# Altium footprint library CASE-D_7343.PcbLib: 1 footprints
Each footprint in its own frame and in the unit in brackets; x right, y up, seen from the top. Pads: shape width x height; smd on the part's side, far side on the other; paste and mask are expansions set on the pad; w line width, h text height; cw(c..) or ccw(c..) is an arc to the next point about the centre after c.
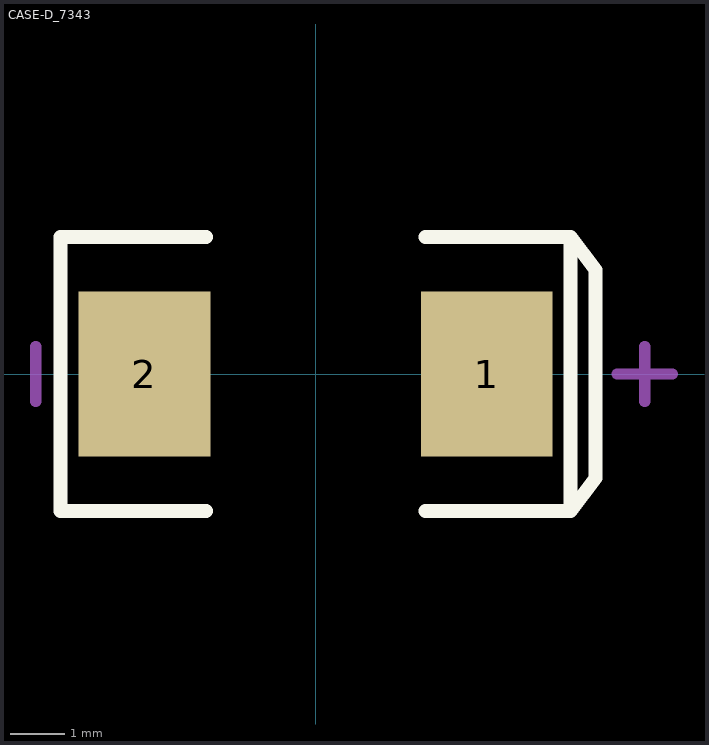
[diagram p0: the footprint, top view; thin cyan lines are the x and y axes]

## CASE-D_7343 [mm]
pads (2):
  rect 2.4x3 smd: 1(3.12,0) 2(-3.12,0)
Top Overlay:
  lines w0.254: -2,-2.5 -4.647,-2.5 -4.647,2.5 -2,2.5 ; 2,-2.5 4.647,-2.5 ; 2,2.5 4.647,2.5 ; 4.647,-2.5 5.1,-1.9 5.1,1.9 4.647,2.5 ; 4.647,-2.5 4.647,2.5
Mechanical 15:
  lines w0.203: -5.1,-0.5 -5.1,0.5 ; 5.5,0 6.5,0 ; 6,-0.5 6,0.5
3D body: height 3.01, standoff 0, extent -3.701,-2.225 3.7,2.225